# EAGLE library part 742C163103JP (library SW_Passives)
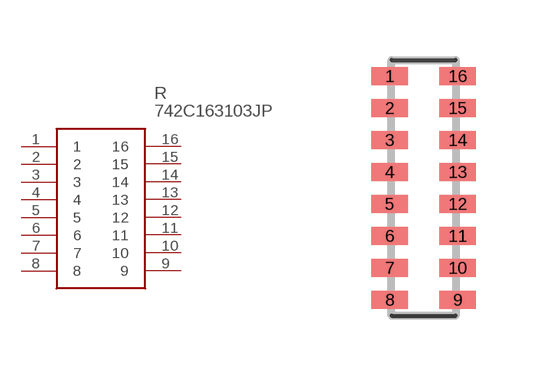
[diagram p0: symbol with the pads of 742C163105JP; footprint 742C163105JP]

Designator prefix R

## 742C163103JP (CATEGORY: Resistor; DESCRIPTION: CTS 74X Series Thick Film Surface Mount Fixed Resistor 0603 Case 10k +/-5% 0.063W +/-200ppm/C; MFGS: CTS; MPNS: 742C163103JP; PACKAGE: 2506)  [742C163105JP]
1  1
2  2
3  3
4  4
5  5
6  6
7  7
8  8
9  9
10  10
11  11
12  12
13  13
14  14
15  15
16  16

## Footprint 742C163105JP (pad centres in mm)
742C
smd 0.9 x 0.45: 1 -0.85,2.8; 2 -0.85,2; 3 -0.85,1.2; 4 -0.85,0.4; 5 -0.85,-0.4; 6 -0.85,-1.2; 7 -0.85,-2; 8 -0.85,-2.8; 9 0.85,-2.8; 10 0.85,-2; 11 0.85,-1.2; 12 0.85,-0.4; 13 0.85,0.4; 14 0.85,1.2; 15 0.85,2; 16 0.85,2.8